# Altium footprint library Passive.PcbLib: 11 footprints
Each footprint in its own frame and in the unit in brackets; x right, y up, seen from the top. Pads: shape width x height; smd on the part's side, far side on the other; paste and mask are expansions set on the pad; w line width, h text height; cw(c..) or ccw(c..) is an arc to the next point about the centre after c.
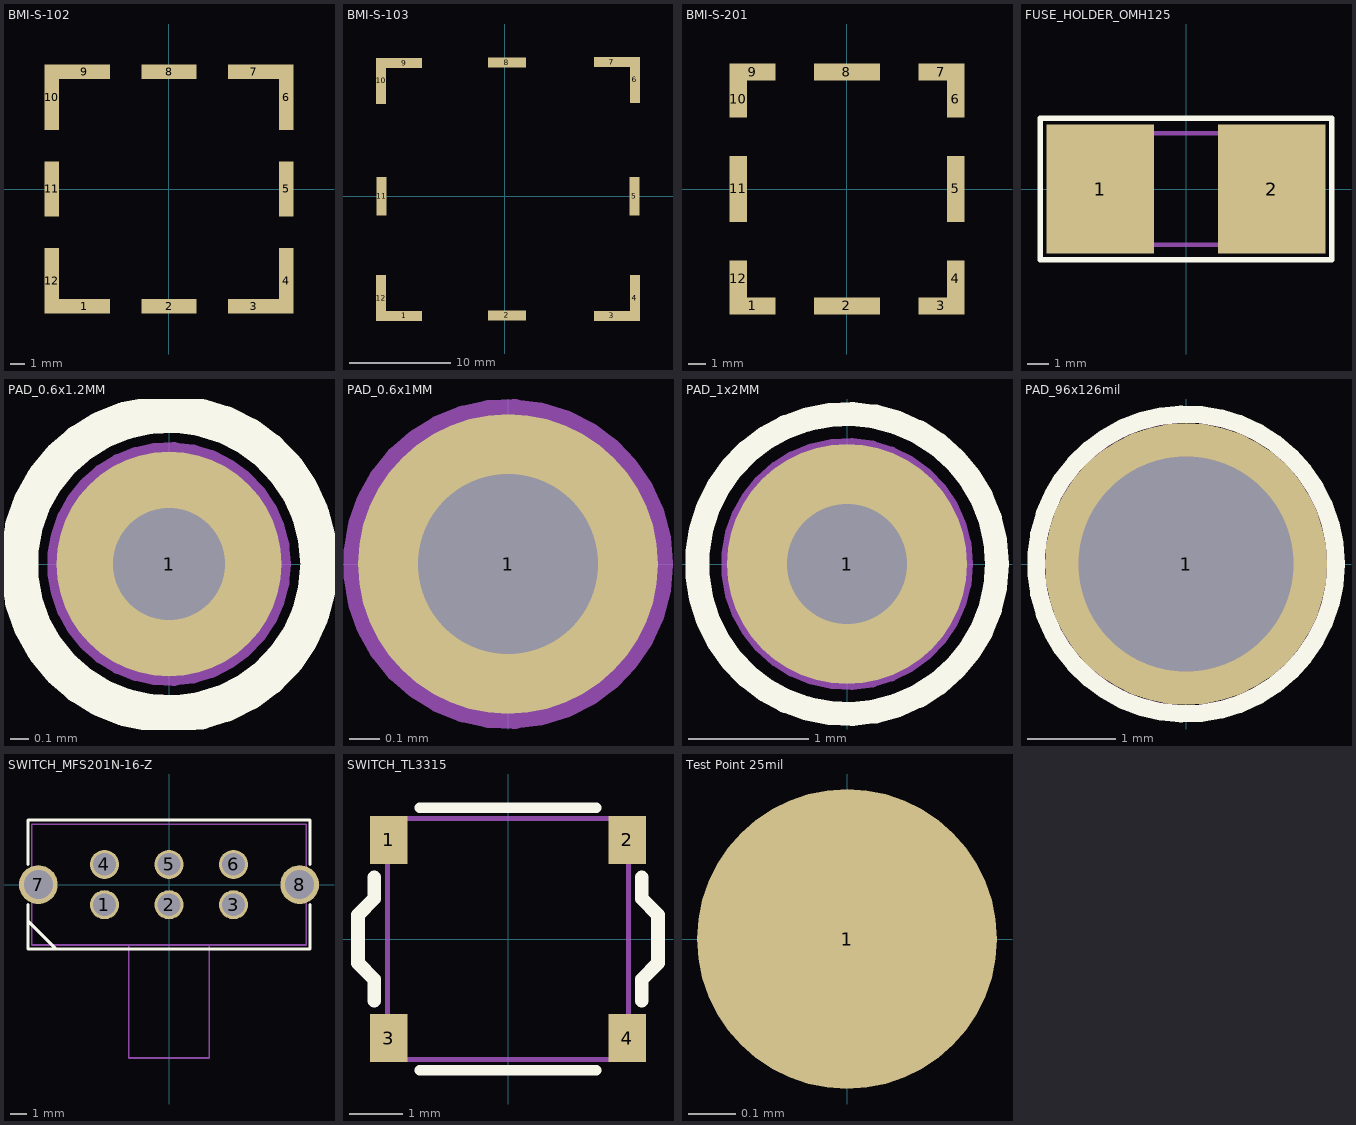
[diagram p0: the footprints below, top view; thin cyan lines are the x and y axes]

## BMI-S-102 [mm] "RF Shield"
pads (12):
  rect 3.55x1 smd: 1(-5.875,-8.15) 3(5.875,-8.15) 7(5.875,8.15) 9(-5.875,8.15)
  rect 3.8x1 smd: 2(0,-8.15) 8(0,8.15)
  rect 1x4.55 smd: 4(8.15,-6.375) 6(8.15,6.375) 10(-8.15,6.375) 12(-8.15,-6.375)
  rect 1x3.8 smd: 5(8.15,0) 11(-8.15,0)
3D body "Laird-BMI-S-102.STEP": height 3.61, standoff 0.01, extent -8.225,-8.253 8.275,8.247

## BMI-S-103 [mm] "LAIRD RF SHIELD"
height 5.08
pads (12):
  rect 3.55x1 smd: 1(-9.975,-11.85) 3(10.575,-11.85) 7(10.575,13.25) 9(-9.975,13.15)
  rect 3.8x1 smd: 2(0.2,-11.8) 8(0.2,13.2)
  rect 1x4.55 smd: 4(12.85,-10.075) 6(12.85,11.475) 10(-12.25,11.375) 12(-12.25,-10.075)
  rect 1x3.8 smd: 5(12.8,0) 11(-12.2,0)
3D body: height 5.1, standoff 0, extent -12.85,-12.4 13.45,13.8

## BMI-S-201 [mm] "RF Shield"
pads (12):
  rect 2.65x1 smd: 1(-5.425,-6.73) 3(5.425,-6.73) 7(5.425,6.73) 9(-5.425,6.73)
  rect 3.8x1 smd: 2(0,-6.73) 8(0,6.73)
  rect 1x2.13 smd: 4(6.25,-5.165) 6(6.25,5.165) 10(-6.25,5.165) 12(-6.25,-5.165)
  rect 1x3.8 smd: 5(6.25,0) 11(-6.25,0)
Mechanical 7:
  lines w0.1: -6.35,-4.2 -6.35,-6.85 -4.2,-6.85 ; -6.35,-1.8 -6.35,1.8 ; -6.35,4.2 -6.35,6.85 -4.2,6.85 ; -1.8,-6.85 1.8,-6.85 ; -1.8,6.85 1.8,6.85 ; 4.2,-6.85 6.35,-6.85 6.35,-4.2 ; 4.2,6.85 6.35,6.85 6.35,4.2 ; 6.35,-1.8 6.35,1.8
  text ".Designator" at -6.4,7.6 h1.5
3D body: height 2.54, standoff 0, extent -6.35,-6.85 6.35,6.85

## FUSE_HOLDER_OMH125 [mm] "Holder for OMF63, OMF125 and OMT125 fuses, SMD"
height 6
pads (2):
  rect 5x6 smd: 1(-4,0) 2(4,0)
Top Overlay:
  lines w0.254: -6.8,-3.3 -6.8,3.3 6.8,3.3 6.8,-3.3 -6.8,-3.3
Mechanical 1:
  lines w0.2: -6,-2.6 -6,2.6 6,2.6 6,-2.6 -6,-2.6
3D body "0031-7701-11.STEP": height 6, standoff 0, extent -6.04,-2.6 6.04,2.6

## PAD_0.6x1.2MM [mm]
pads (1):
  round 1.2 hole 0.6: 1(0,0)
Top Overlay:
  circle w0.2: c0,0 r0.8
Mechanical 7:
  circle w0.1: c0,0 r0.6
  circle w0.1: c0,0 r0.3
  text ".Designator" at -0.7,1.1 h2.2

## PAD_0.6x1MM [mm]
pads (1):
  round 1 hole 0.6: 1(0,0)
Mechanical 7:
  circle w0.1: c0,0 r0.3
  circle w0.1: c0,0 r0.5
  text ".Designator" at -1.9,0.9 h1.2

## PAD_1x2MM [mm]
pads (1):
  round 2 hole 1: 1(0,0)
Top Overlay:
  circle w0.2: c0,0 r1.25
Mechanical 7:
  circle w0.1: c0,0 r1
  circle w0.1: c0,0 r0.5
  text ".Designator" at -1.3,1.4 h2.2

## PAD_96x126mil [mil]
pads (1):
  round 126 hole 96: 1(0,0)
Top Overlay:
  circle w7.87: c0,0 r67
Mechanical 2:
  circle w3.94: c0,0 r65
Mechanical 7:
  circle w3.94: c0,0 r59.06
  circle w3.94: c0,0 r48

## SWITCH_MFS201N-16-Z [mm] "Switch tactile SPST-NO"
height 9
pads (8):
  round 1.8 hole 1.4: 1(-4,-1.25) 2(0,-1.25) 3(4,-1.25) 4(-4,1.25) 5(0,1.25) 6(4,1.25)
  round 2.4 hole 1.8: 7(-8.1,0) 8(8.1,0)
Top Overlay:
  lines w0.2: -8.75,-2.25 -7,-4 ; -8.75,-1.25 -8.75,-4 8.75,-4 8.75,-1.25 ; -8.75,1.25 -8.75,4 8.75,4 8.75,1.25
Mechanical 7:
  lines w0.1: -2.5,-3.75 -2.5,-10.75 2.5,-10.75 2.5,-3.75 ; -8.5,-3.75 8.5,-3.75 8.5,3.75 -8.5,3.75 -8.5,-3.75
  text ".Designator" at -2.5,-0.5 h1.5
3D body: height 9, standoff 0, extent -8.5,-3.75 8.5,3.75
3D body: height 7, standoff 3, extent -2.5,-10.75 2.5,-3.75

## SWITCH_TL3315 [mm] "Switch tactile SPST-NO"
height 0.55
pads (4):
  rect 0.7x0.9 smd mask+0.051: 1(-2.225,1.85) 2(2.225,1.85) 3(-2.225,-1.85) 4(2.225,-1.85)
Top Overlay:
  lines w0.2: -1.65,-2.45 1.65,-2.45 ; -1.65,2.45 1.65,2.45
  lines w0.254: -2.5,-1.15 -2.5,-0.75 -2.8,-0.45 -2.8,0.45 -2.5,0.75 -2.5,1.15 ; 2.5,-1.15 2.5,-0.75 2.8,-0.45 2.8,0.45 2.5,0.75 2.5,1.15
Mechanical 1:
  lines w0.1: -2.25,-2.25 -2.25,2.25 2.25,2.25 2.25,-2.25 -2.25,-2.25
Mechanical 7:
  text ".Designator" at -1.8,-0.3 h1.5
3D body: height 0.55, standoff 0, extent -2.25,-2.25 2.25,2.25

## Test Point 25mil [mm]
pads (1):
  round 0.635 smd paste-0.635 mask+0.051: 1(0,0)